# Altium footprint library 采集板3.0增加1路模拟量2.PcbLib: 46 footprints (part 3 of 3)
Each footprint in its own frame and in the unit in brackets; x right, y up, seen from the top. Pads: shape width x height; smd on the part's side, far side on the other; paste and mask are expansions set on the pad; w line width, h text height; cw(c..) or ccw(c..) is an arc to the next point about the centre after c.
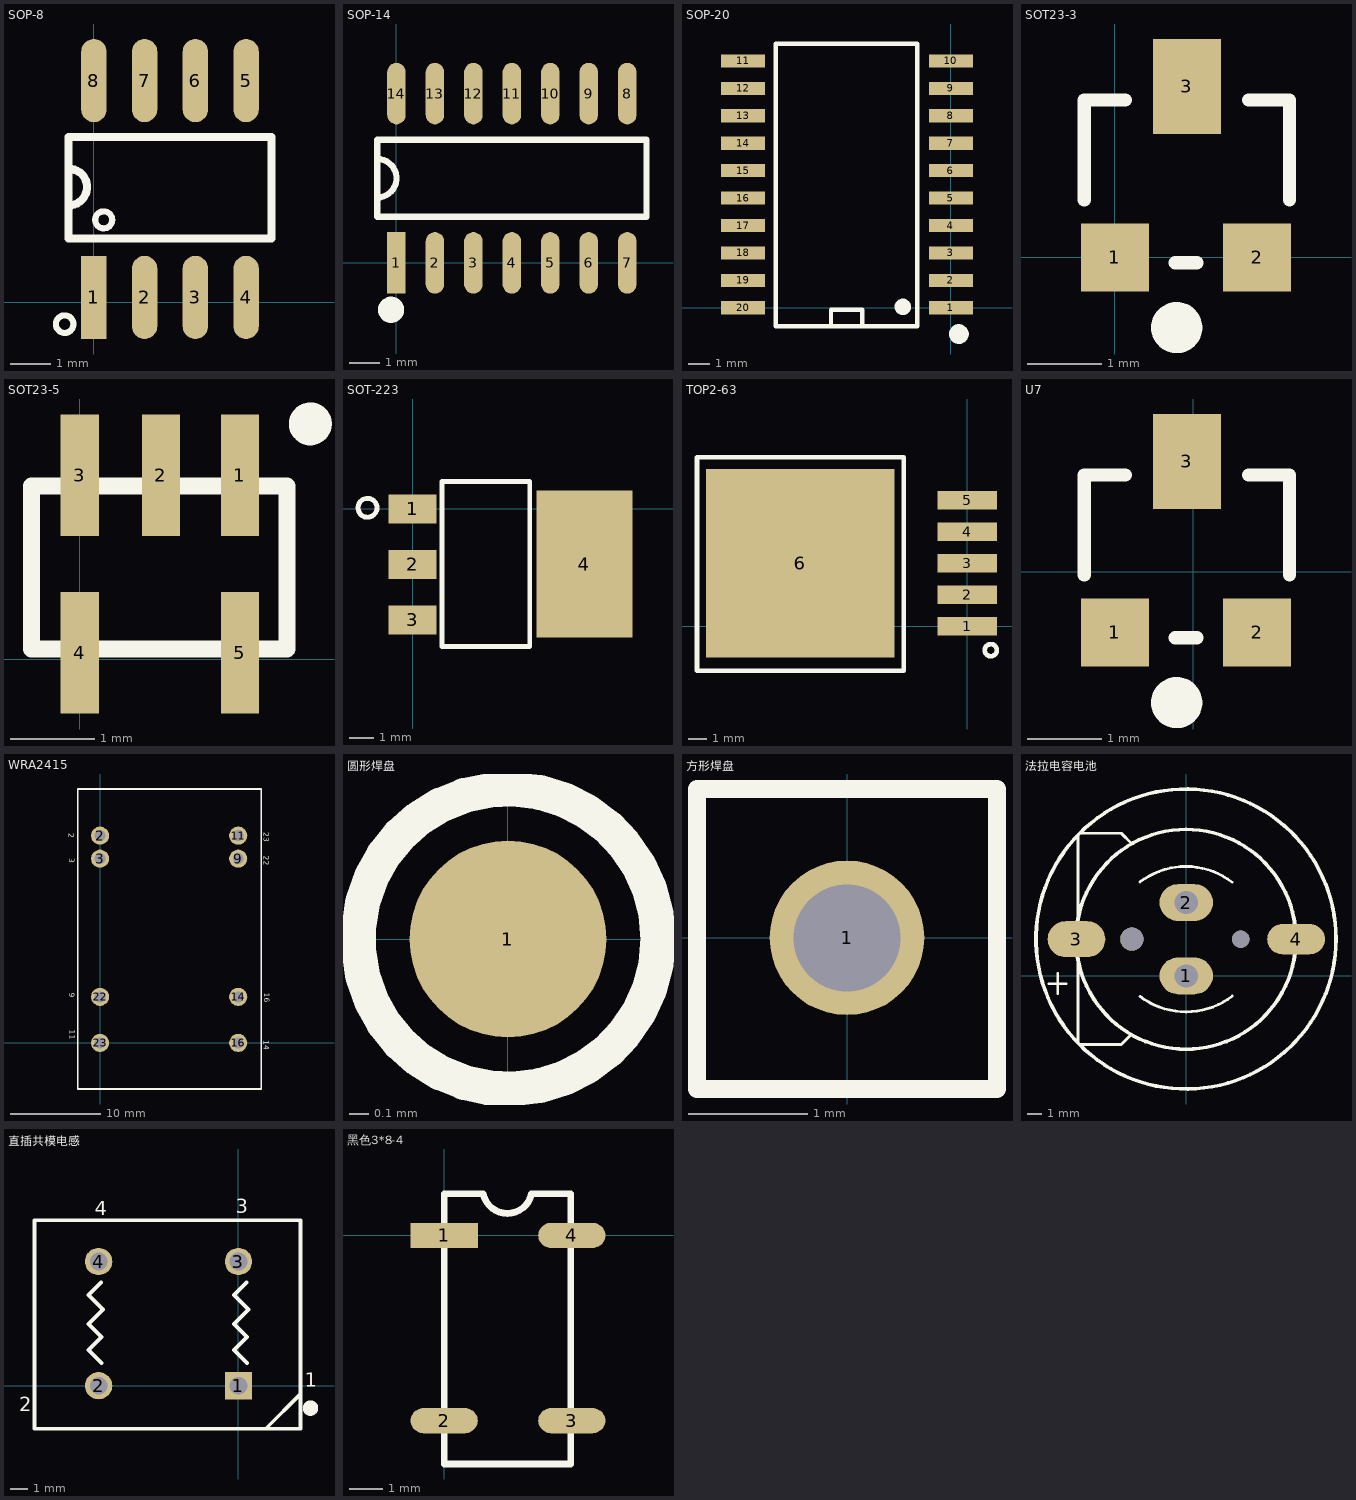
[diagram p2: the footprints below, top view; thin cyan lines are the x and y axes]

## SOP-8 [mil]
pads (8):
  rect 25x82 smd: 1(0,5)
  oval 25x82 smd: 2(50,5) 3(100,5) 4(150,5) 5(150,218.54) 6(100,218.54) 7(50,218.54) 8(0,218.54)
Top Overlay:
  circle w6: c9.71,81.37 r8.37
  circle w6: c-28.77,-21.36 r8.63
  lines w8: -24.83,95.54 ccw(c-24.83,113.65) -24.83,131.76 ; -24.83,62.86 175.17,62.86 175.17,162.86 -24.83,162.86 -24.83,62.86

## SOP-14 [mil]
pads (14):
  rect 24x80 smd: 1(0,0)
  oval 24x80 smd: 2(50,0) 3(100,0) 4(150,0) 5(200,0) 6(250,0) 7(300,0) 8(300,220) 9(250,220) 10(200,220) 11(150,220) 12(100,220) 13(50,220) 14(0,220)
Top Overlay:
  circle w20: c-7,-61.02 r7
  lines w8: -25,85 ccw(c-25,110) -25,135 ; -25,60 -25,160 325,160 325,60 -25,60

## SOP-20 [mil]
pads (20):
  rect 80x24 smd: 1(0,0) 2(0,50) 3(0,100) 4(0,150) 5(0,200) 6(0,250) 7(0,300) 8(0,350) 9(0,400) 10(0,450) 11(-378.79,450) 12(-378.79,400) 13(-378.8,350) 14(-378.8,300) 15(-378.8,250) 16(-378.8,200) 17(-378.79,150) 18(-378.8,100) 19(-378.79,50) 20(-378.8,0)
Top Overlay:
  circle w18: c14.54,-47.86 r9
  circle w18: c-87.58,1.74 r6
  lines w8: -218.59,-33.69 -218.59,-3.37 -161.5,-3.37 -161.5,-33.69 ; -318.98,-33.69 -318.98,481.67 -61.11,481.67 -61.11,-33.69 -318.98,-33.69

## SOT23-3 [mil] "MN1"
pads (3):
  rect 36x36 smd: 1(0,0) 2(75,0)
  rect 36x50 smd: 3(38,90.24)
Top Overlay:
  circle w15: c32.59,-37.01 r6
  lines w7: -16.14,30.32 -16.14,83.07 5.51,83.07 ; 31.89,-2.76 43.31,-2.76 ; 70.49,83.07 92.14,83.07 92.14,30.32

## SOT23-5 [mil]
pads (5):
  rect 18x57 smd: 1(75,86.22) 2(38,86.22) 3(0,86.22) 4(0,3) 5(75,3)
Top Overlay:
  circle w12: c107.95,110.24 r4.05
  lines w8: -22.64,4.72 -22.64,81.1 97.05,81.1 97.05,4.72 -22.64,4.72

## SOT-223 [mm]
pads (4):
  rect 2x1.2 smd: 1(0,0) 2(0,-2.3) 3(0,-4.6)
  rect 4x6.1 smd: 4(7.13,-2.29)
Top Overlay:
  circle w0.203: c-1.873,0.05 r0.393
  lines w0.203: 1.221,-5.698 1.221,1.132 4.861,1.132 4.861,-5.698 1.221,-5.698

## TOP2-63 [mm] "U16"
pads (6):
  rect 3.2x1 smd: 1(0,0) 2(0,1.7) 3(0,3.4) 4(0,5.1) 5(0,6.8)
  rect 10.16x10.16 smd: 6(-9,3.4)
Top Overlay:
  circle w0.254: c1.264,-1.282 r0.326
  lines w0.254: -14.566,-2.382 -14.566,9.108 -3.426,9.108 -3.426,-2.382 -14.566,-2.382

## U7 [mil]
pads (3):
  rect 36x36 smd: 1(-41.38,-32.05) 2(33.62,-32.05)
  rect 36x50 smd: 3(-3.38,58.19)
Top Overlay:
  circle w15: c-8.79,-69.06 r6
  lines w7: -57.52,-1.73 -57.52,51.02 -35.87,51.02 ; -9.49,-34.8 1.93,-34.8 ; 29.11,51.02 50.76,51.02 50.76,-1.73

## WRA2415 [mm]
pads (8):
  round 2 hole 1.2: 2(0,22.86) 3(0,20.32) 9(15.24,20.32) 11(15.24,22.86) 14(15.24,5.08) 16(15.24,0) 22(0,5.08) 23(0,0)
Top Overlay:
  lines w0.178: -2.467,-5.081 -2.467,28.004 17.779,28.004 17.779,-5.081 -2.467,-5.081
  text "3" at -3.417,20.368 h0.6
  text "2" at -3.477,23.13 h0.6
  text "9" at -3.397,5.507 h0.6
  text "11" at -3.317,1.474 h0.6
  text "14" at 18.049,0.313 h0.6
  text "22" at 18.079,20.638 h0.6
  text "23" at 18.029,23.24 h0.6
  text "16" at 18.087,5.533 h0.6

## 圆形焊盘 [mm]
pads (1):
  round 1 smd: 1(0,0)
Top Overlay:
  circle w0.178: c0,0 r0.762

## 方形焊盘 [mm]
pads (1):
  round 1.3 hole 0.9: 1(0,0)
Top Overlay:
  lines w0.152: -1.261,-1.271 -1.261,1.251 1.261,1.251 1.261,-1.271 -1.261,-1.271

## 法拉电容电池 [mm]
pads (6):
  oval 3.7x2.55 hole 1.6: 1(0,0) 2(0,5.08)
  oval 4x2.5 smd: 3(-7.608,2.54)
  oval 4x2.1 smd: 4(7.608,2.54)
  round 1.6 hole 1.6: ""(-3.774,2.54)
  round 1.2 hole 1.2: ""(3.774,2.54)
Top Overlay:
  circle w0.254: c-0.02,2.553 r10.391
  circle w0.254: c-0.02,2.533 r7.613
  lines w0.178: -9.515,-0.55 -8.324,-0.55 ; -8.914,-1.25 -8.914,0.161
  lines w0.203: -7.493,-4.603 -7.493,9.728 ; -7.377,-4.755 -4.505,-4.755 -3.794,-4.044 ; -7.377,9.88 -4.505,9.88 -3.794,9.169 ; -3.193,-1.427 ccw(c-0.02,2.738) 3.184,-1.403 ; -3.193,6.507 cw(c-0.02,2.342) 3.184,6.483

## 直插共模电感 [mm]
pads (4):
  rect 1.55x1.55 hole 1: 1(0,0)
  round 1.55 hole 1: 2(-7.928,0) 3(0,7.037) 4(-7.928,7.037)
Top Overlay:
  circle w0.508: c4.083,-1.271 r0.183
  lines w0.203: 1.541,-2.442 3.513,-0.47 ; -11.559,-2.442 -11.559,9.367 3.513,9.367 3.513,-2.442 -11.559,-2.442
  lines w0.229: -7.786,5.854 -8.506,5.134 -7.686,4.313 -8.506,3.493 -7.776,2.762 -8.506,2.032 -7.766,1.291 ; 0.46,5.854 -0.26,5.134 0.56,4.313 -0.26,3.493 0.47,2.762 -0.26,2.032 0.48,1.291
  text "4" at -8.136,9.657 h0.8
  text "3" at -0.15,9.767 h0.8
  text "2" at -12.439,-1.441 h0.8
  text "1" at 3.763,-0.05 h0.8

## 黑色3*8-4 [mm]
pads (4):
  rect 2x0.75 smd: 1(0,0)
  oval 2x0.75 smd: 2(0,-5.52) 3(3.8,-5.52) 4(3.8,0)
Top Overlay:
  lines w0.203: 2.6,1.242 cw(c1.88,1.39) 1.16,1.24 0,1.24 0,-6.81 3.77,-6.81 3.77,1.24 2.61,1.24